# Altium footprint library FootPrintLib_5.PCBLIB: 254 footprints (part 6 of 16)
Each footprint in its own frame and in the unit in brackets; x right, y up, seen from the top. Pads: shape width x height; smd on the part's side, far side on the other; paste and mask are expansions set on the pad; w line width, h text height; cw(c..) or ccw(c..) is an arc to the next point about the centre after c.
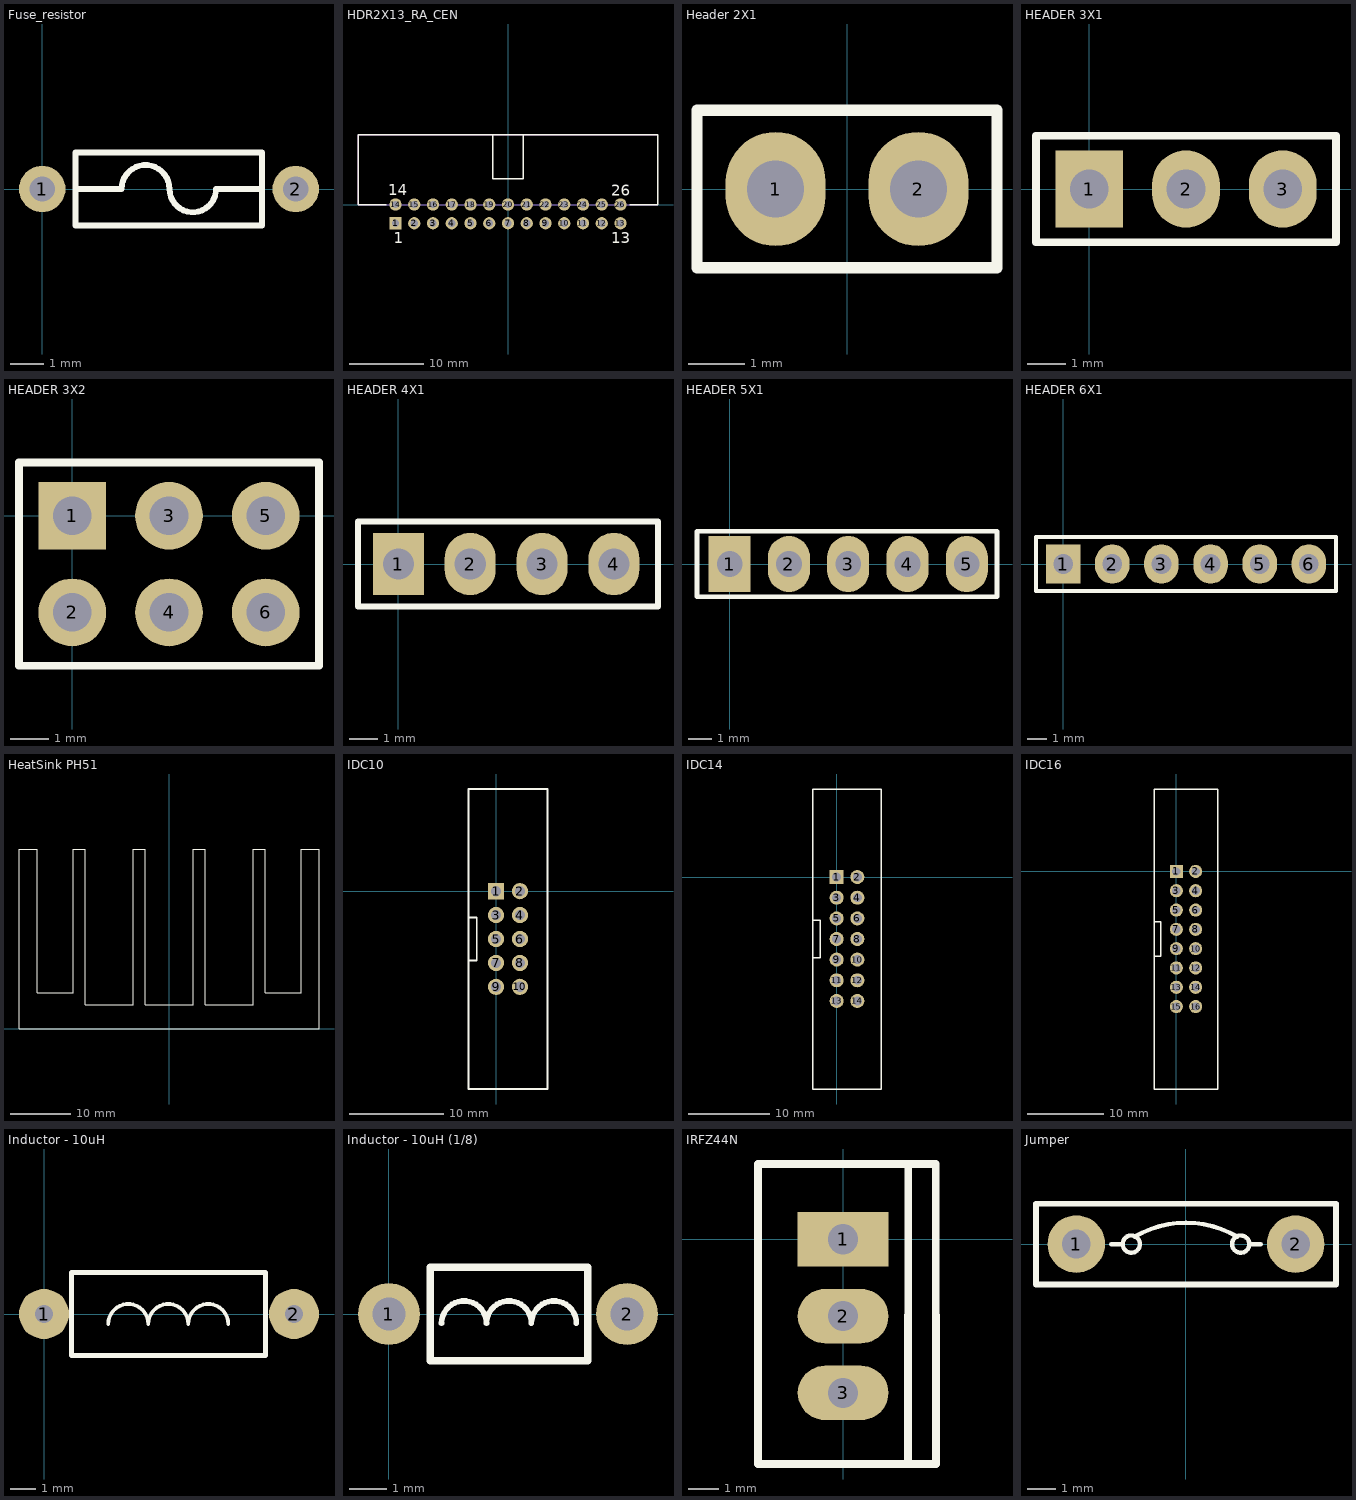
[diagram p5: the footprints below, top view; thin cyan lines are the x and y axes]

## Fuse_resistor [mil]
pads (2):
  round 55 hole 30: 1(0,0) 2(300,0)
Top Overlay:
  lines w7: 39.37,0 93.81,0 cw(c122.2,0) 150.59,0 ccw(c178.15,0) 205.71,0 259.84,0
  lines w7.09: 39.37,-43.31 259.84,-43.31 259.84,43.31 39.37,43.31 39.37,-43.31

## HDR2X13_RA_CEN [mm]
height 9.2
pads (26):
  rect 1.65x1.65 hole 1: 1(-15.24,-2.54)
  round 1.65 hole 1: 2(-12.7,-2.54) 3(-10.16,-2.54) 4(-7.62,-2.54) 5(-5.08,-2.54) 6(-2.54,-2.54) 7(0,-2.54) 8(2.54,-2.54) 9(5.08,-2.54) 10(7.62,-2.54) 11(10.16,-2.54) 12(12.7,-2.54) 13(15.24,-2.54) 14(-15.24,0) 15(-12.7,0) 16(-10.16,0) 17(-7.62,0) 18(-5.08,0) 19(-2.54,0) 20(0,0) 21(2.54,0) 22(5.08,0) 23(7.62,0) 24(10.16,0) 25(12.7,0) 26(15.24,0)
Top Overlay:
  lines w0.2: -16.465,0 -20.32,0 -20.32,9.45 20.32,9.45 20.32,0 16.465,0 ; -2.05,9.45 -2.05,3.48 2.05,3.48 2.05,9.45
  text "13" at 13.99,-5.24 h1.5
  text "26" at 13.99,1.2 h1.5
  text "1" at -15.49,-5.24 h1.5
  text "14" at -16.256,1.27 h1.5
Mechanical 13:
  lines w0.1: -20.32,0 20.32,0 20.32,9.45 -20.32,9.45 -20.32,0
3D body: height 9.2, standoff 0, extent -20.32,0 20.32,9.45

## Header 2X1 [mil]
pads (2):
  oval 70x80 hole 40: 1(-50,0) 2(50,0)
Top Overlay:
  lines w7.87: -105.12,-55.12 -105.12,55.12 105.12,55.12 105.12,-55.12 -105.12,-55.12

## HEADER 3X1 [mil]
pads (3):
  rect 70x80 hole 40: 1(0,0)
  oval 70x80 hole 40: 2(100,0) 3(200,0)
Top Overlay:
  lines w7.87: -55.12,-55.12 255.12,-55.12 255.12,55.12 -55.12,55.12 -55.12,-55.12
3D body "Header3.STEP": height 330, standoff -100, extent -49,-50 251,50

## HEADER 3X2 [mil]
pads (6):
  rect 70x70 hole 40: 1(0,0)
  round 70 hole 40: 2(0,-100) 3(100,0) 4(100,-100) 5(200,0) 6(200,-100)
Top Overlay:
  lines w7.87: -55.12,-155 -55.12,55.12 ; -55,-155 255,-155 ; -55,55 255,55 ; 255.12,-155 255.12,55.12
3D body "Header3.STEP": height 330, standoff -100, extent -51,-50 249,50
3D body "Header3.STEP": height 330, standoff -100, extent -51,-150 249,-50

## HEADER 4X1 [mm]
pads (4):
  rect 1.8x2.2 hole 1.1: 1(0,0)
  oval 1.8x2.2 hole 1.1: 2(2.54,0) 3(5.08,0) 4(7.62,0)
Top Overlay:
  lines w0.2: -1.425,-1.5 -1.425,1.5 9.175,1.5 9.175,-1.5 -1.425,-1.5
3D body "Header4.STEP": height 8.38, standoff -2.54, extent -1.194,-1.219 8.966,1.321

## HEADER 5X1 [mm]
pads (5):
  rect 1.8x2.4 hole 1.1: 1(0,0)
  oval 1.8x2.4 hole 1.1: 2(2.54,0) 3(5.08,0) 4(7.62,0) 5(10.16,0)
Top Overlay:
  lines w0.2: -1.4,-1.4 -1.4,1.4 11.455,1.4 11.455,-1.4 -1.4,-1.4
3D body "Header5.STEP": height 8.38, standoff -2.54, extent -1.219,-1.194 11.481,1.346

## HEADER 6X1 [mil]
pads (6):
  rect 70x80 hole 40: 1(0,0)
  oval 70x80 hole 40: 2(100,0) 3(200,0) 4(300,0) 5(400,0) 6(500,0)
Top Overlay:
  lines w7.87: -55.12,-55.12 555.12,-55.12 555.12,55.12 -55.12,55.12 -55.12,-55.12
3D body "Header6.STEP": height 330, standoff -100, extent -52,-49 548,51

## HeatSink PH51 [mm]
Top Overlay:
  lines w0.178: -25.044,30.001 -21.999,30.001 -21.999,6.001 -16.001,6.001 -16.001,30.001 -13.999,30.001 -13.999,4.001 -6.001,4.001 -6.001,30.001 -3.999,30.001 -3.999,4.001 3.999,4.001 3.999,30.001 6.001,30.001 6.001,4.001 13.999,4.001 13.999,30.001 16.001,30.001 16.001,6.001 21.999,6.001 21.999,30.001 25.001,30.001 25.001,-0.001 -25.001,-0.001 -25.001,30.001
3D body: height 30.48, standoff 5.08, extent -25.001,-0.001 25.001,30.001

## IDC10 [mil]
pads (10):
  rect 68x68 hole 43: 1(0,0)
  round 68 hole 43: 2(100,0) 3(0,-100) 4(100,-100) 5(0,-200) 6(100,-200) 7(0,-300) 8(100,-300) 9(0,-400) 10(100,-400)
Top Overlay:
  lines w7: -115,-290 -80,-290 -80,-110 -115,-110 ; -115,-827 -115,427 215,427 215,-827 -115,-827

## IDC14 [mil]
pads (14):
  rect 68x68 hole 43: 1(0,0)
  round 68 hole 43: 2(100,0) 3(0,-100) 4(100,-100) 5(0,-200) 6(100,-200) 7(0,-300) 8(100,-300) 9(0,-400) 10(100,-400) 11(0,-500) 12(100,-500) 13(0,-600) 14(100,-600)
Top Overlay:
  lines w7: -115,-390 -80,-390 -80,-210 -115,-210 ; -115,-1027 215,-1027 215,427 -115,427 -115,-1027

## IDC16 [mil]
pads (16):
  rect 68x68 hole 43: 1(0,0)
  round 68 hole 43: 2(100,0) 3(0,-100) 4(100,-100) 5(0,-200) 6(100,-200) 7(0,-300) 8(100,-300) 9(0,-400) 10(100,-400) 11(0,-500) 12(100,-500) 13(0,-600) 14(100,-600) 15(0,-700) 16(100,-700)
Top Overlay:
  lines w7: -115,-440 -80,-440 -80,-260 -115,-260 ; -115,-1127 -115,427 215,427 215,-1127 -115,-1127
3D body "IDC 16.STEP": height 1069.11, standoff -98, extent -115,-1127 215,427

## Inductor - 10uH [mm]
pads (2):
  round 2 hole 0.7: 1(0,0) 2(10,0)
Top Overlay:
  lines w0.15: 2.571,-0.4 cw(c3.371,-0.4) 4.171,-0.4 cw(c4.971,-0.4) 5.771,-0.4 cw(c6.571,-0.4) 7.371,-0.4
  lines w0.2: 1.105,-1.67 1.105,1.67 8.865,1.67 8.865,-1.67 1.105,-1.67

## Inductor - 10uH (1/8) [mil]
pads (2):
  round 65 hole 35: 1(0,0) 2(250,0)
Top Overlay:
  lines w5.91: 55.12,-9.84 cw(c78.74,-9.84) 102.36,-9.84 cw(c125.98,-9.84) 149.61,-9.84 cw(c173.23,-9.84) 196.85,-9.84
  lines w7.87: 43.31,-49.21 208.66,-49.21 208.66,49.21 43.31,49.21 43.31,-49.21
3D body "Inductor.STEP": height 115.05, standoff -39.37, extent -10,-36.24 260,36.24

## IRFZ44N [mm]
pads (3):
  rect 3x1.8 hole 1: 1(0,0)
  oval 3x1.8 hole 1: 2(0,-2.54) 3(0,-5.08)
Top Overlay:
  lines w0.254: 2.15,-7.43 2.16,2.49 ; -2.81,-7.43 -2.81,2.49 3.06,2.49 3.07,-7.43 -2.81,-7.43

## Jumper [mm]
pads (2):
  round 2 hole 1: 1(-3.81,0) 2(3.81,0)
Top Overlay:
  circle w0.15: c-1.9,0 r0.3
  circle w0.15: c1.9,0 r0.3
  lines w0.15: -2.6,0 -2.2,0 ; -1.776,0.26 cw(c0,-2.756) 1.776,0.26 ; 2.2,0 2.6,0
  lines w0.2: -5.21,-1.4 5.21,-1.4 5.21,1.4 -5.21,1.4 -5.21,-1.4
3D body "Resistor Zero.STEP": height 2.5, standoff -2.3, extent -4.21,-1.2 4.21,1.2